# Altium schematic symbol library elements_schematic.SchLib: 2 symbols
Pins are listed as number, name and electrical type; pins without a type are passive.

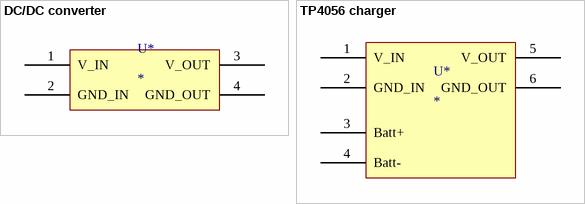
[diagram p0: symbols DC/DC converter to TP4056 charger]

## DC/DC converter
designator U*
pins: 1 V_IN, 2 GND_IN, 3 V_OUT, 4 GND_OUT

## TP4056 charger
designator U*
pins: 1 V_IN, 2 GND_IN, 3 Batt+, 4 Batt-, 5 V_OUT, 6 GND_OUT